# EAGLE library part TPS773* (library mytexas)
250-mA LDO REGULATORS WITH RESET OUTPUT WITH 8-PIN MSOP PACKAGING Source: http://focus.ti.com/lit/ds/symlink/tps77333.pdf
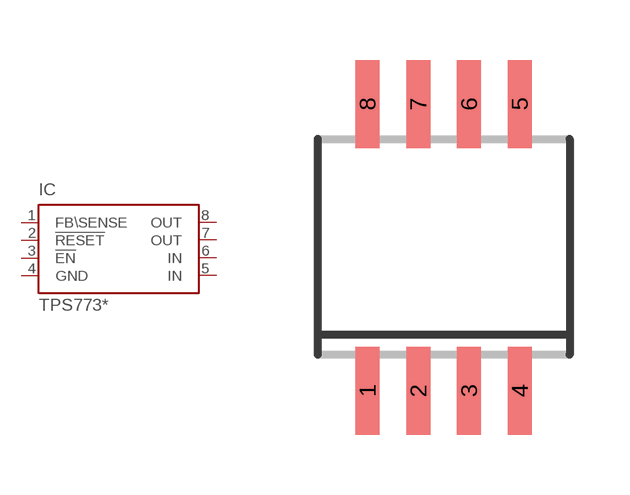
[diagram p62: symbol with the pads of SOP-08; footprint SOP-08]

Designator prefix IC

## TPS77301, TPS77315, TPS77316, TPS77318, TPS77327, TPS77328, TPS77333, TPS77350  [SOP-08]
1  FB\SENSE  in
2  !RESET  in
3  !EN  in
4  GND  pwr
5  IN  in
6  IN  in
7  OUT  out
8  OUT  pas

## Footprint SOP-08 (pad centres in mm)
PS (R-PDSO-G8) Source: http://focus.ti.com .. sn65176b.pdf
smd 0.6 x 2.2: 1 -1.905,-3.6; 2 -0.635,-3.6; 3 0.635,-3.6; 4 1.905,-3.6; 5 1.905,3.575; 6 0.635,3.575; 7 -0.635,3.575; 8 -1.905,3.575